# EAGLE library part MAX1765 (library X893)
http://www.maximintegrated.com/datasheet/index.mvp/id/2373
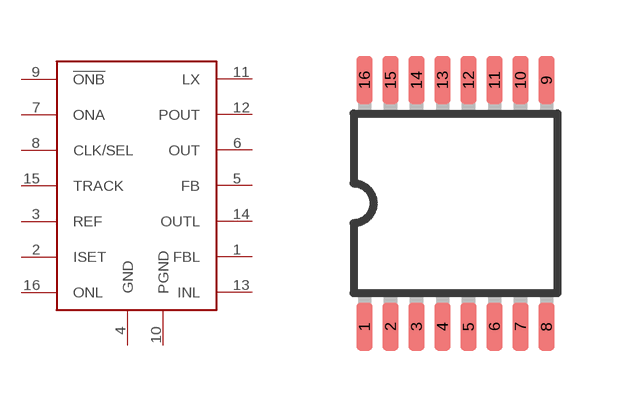
[diagram p164: symbol with the pads of TSSOP16; footprint TSSOP16]

Designator prefix U

## MAX1765  [TSSOP16]
1  FBL  pas
2  ISET  pas
3  REF  pas
4  GND  sup
5  FB  pas
6  OUT  pas
7  ONA  in
8  CLK/SEL  in
9  !ONB  in
10  PGND  sup
11  LX  pas
12  POUT  pas
13  INL  pas
14  OUTL  pas
15  TRACK  in
16  ONL  in

## Footprint TSSOP16 (pad centres in mm)
TSOP16 thin small outline package
smd 0.4 x 1.2: 1 -2.275,-3.087; 2 -1.625,-3.087; 3 -0.975,-3.087; 4 -0.325,-3.087; 5 0.325,-3.087; 6 0.975,-3.087; 7 1.625,-3.087; 8 2.275,-3.087; 9 2.275,3.087; 10 1.625,3.087; 11 0.975,3.087; 12 0.325,3.087; 13 -0.325,3.087; 14 -0.975,3.087; 15 -1.625,3.087; 16 -2.275,3.087